# Altium footprint library Diode_Littelfuse_SP3003-02JTG_eec_IPC_B.PcbLib: 1 footprints
Each footprint in its own frame and in the unit in brackets; x right, y up, seen from the top. Pads: shape width x height; smd on the part's side, far side on the other; paste and mask are expansions set on the pad; w line width, h text height; cw(c..) or ccw(c..) is an arc to the next point about the centre after c.
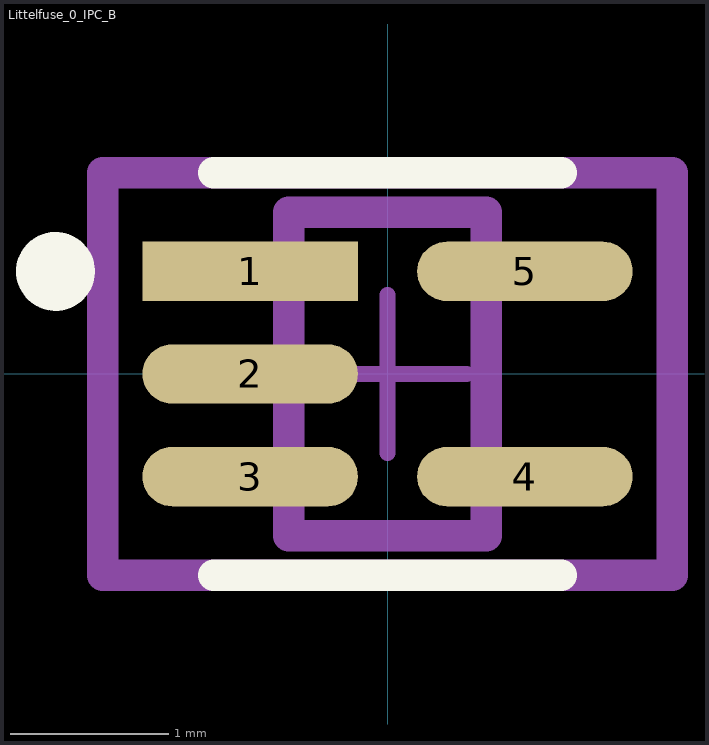
[diagram p0: the footprint, top view; thin cyan lines are the x and y axes]

## Littelfuse_0_IPC_B [mm]
pads (5):
  rect 1.366x0.376 smd paste+0 mask+0: 1(-0.87,0.65)
  rrect100% 1.366x0.376 smd paste+0 mask+0: 2(-0.87,0) 3(-0.87,-0.65) 4(0.87,-0.65) 5(0.87,0.65)
Top Overlay:
  circle w0.25: c-2.103,0.65 r0.125
  lines w0.2: -1.1,-1.275 1.1,-1.275 ; -1.1,1.275 1.1,1.275
Mechanical 10:
  lines w0.2: -1.803,-1.275 1.803,-1.275 1.803,1.275 -1.803,1.275 -1.803,-1.275
  text ".Designator" at 0,0 h1
Mechanical 12:
  lines w0.2: -0.625,-1.025 0.625,-1.025 0.625,1.025 -0.625,1.025 -0.625,-1.025
Mechanical 15:
  lines w0.1: -0.5,0 0.5,0 ; 0,-0.5 0,0.5
  lines w0.2: -1.803,-1.275 1.803,-1.275 1.803,1.275 -1.803,1.275 -1.803,-1.275
3D body "Diode_Littelfuse_SP3003-02JTG_eec.STEP": height 0.25, standoff 0, extent -1.803,-1.275 1.803,1.275